# EAGLE library part INA219 (library bschulz_Old)
INA219, TI current sense amplifer, 26V common mode range, 3.3-5v Logic
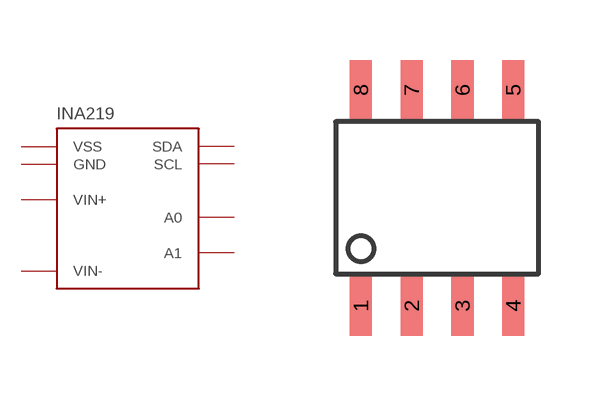
[diagram p2: symbol with the pads of SOIC_8; footprint SOIC_8]

Designator prefix -

## INA219  [SOIC_8]
1  A1
2  A0
3  SDA
4  SCL
5  VSS
6  GND
7  VIN-
8  VIN+

## Footprint SOIC_8 (pad centres in mm)
smd 0.55 x 1.5: 1 -2.54,-2.7; 2 -1.27,-2.7; 3 0,-2.7; 4 1.27,-2.7; 5 1.27,2.7; 6 0,2.7; 7 -1.27,2.7; 8 -2.54,2.7